# EAGLE library part AD5160 (library ad5160 - 256-Position SPI-Compatible Digital Potentiometer)
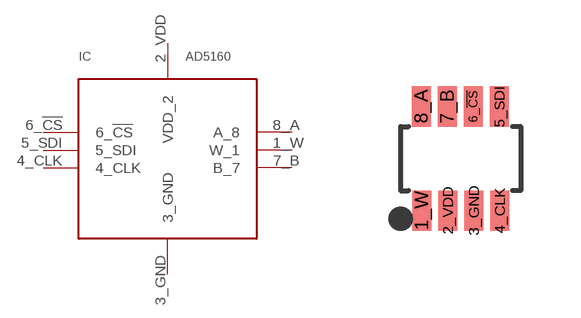
[diagram p0: symbol with the pads of SOT-23-8; footprint SOT-23-8]

Designator prefix IC

## AD5160  [SOT-23-8]
1_W  W_1
2_VDD  VDD_2
3_GND  3_GND
4_CLK  4_CLK
5_SDI  5_SDI
6_!CS!  6_!CS!
7_B  B_7
8_A  A_8

## Footprint SOT-23-8 (pad centres in mm)
smd 0.48 x 1: 1_W -0.97,-1.3; 2_VDD -0.32,-1.3; 3_GND 0.33,-1.3; 4_CLK 0.98,-1.3; 5_SDI 0.97,1.3; 6_!CS! 0.32,1.3; 7_B -0.33,1.3; 8_A -0.98,1.3